# EAGLE library part POLOLU_DRV8838 (library scono)
Pololu DRV_8838 Breakout 1 Motor, 1.7 Amps.
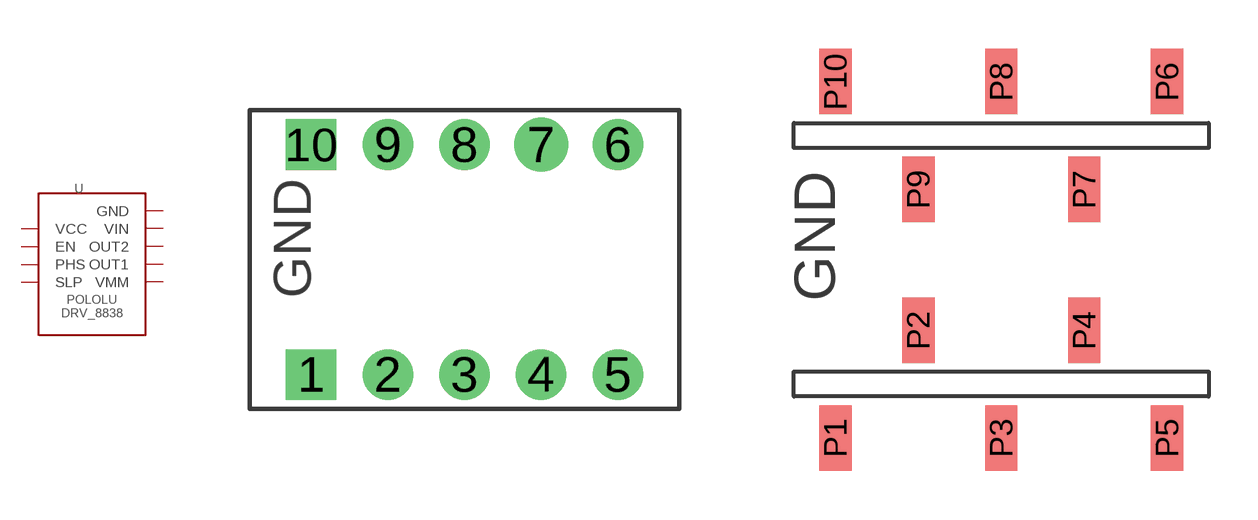
[diagram p13: symbol with the pads of DIP_10; footprints DIP_10, 10PIN_SMT_.1"]

Designator prefix -

## POLOLU_DRV8838THRU  [DIP_10]
1  GND
2  VCC
3  EN
4  PHS
5  SLP
6  VMM
7  OUT1
8  OUT2
9  VIN
10  GND

## POLOLU_DRV8838SMT  [10PIN_SMT_.1"]
P1  GND
P2  VCC
P3  EN
P4  PHS
P5  SLP
P6  VMM
P7  OUT1
P8  OUT2
P9  VIN
P10  GND

## POLOLU_DRV8838CAST  [POLOLU_DRV8838_CASTELLATED]
Pads as for DIP_10

## Footprint DIP_10 (pad centres in mm)
DIP SWITCH
drill 0.813 pad 1.676 square: 1 -5.08,-3.81; 10 -5.08,3.81
drill 0.813 pad 1.676: 2 -2.54,-3.81; 3 0,-3.81; 4 2.54,-3.81; 5 5.08,-3.81; 6 5.08,3.81; 8 0,3.81; 9 -2.54,3.81
drill 0.813 pad 1.778: 7 2.54,3.81

## Footprint 10PIN_SMT_.1" (pad centres in mm)
10 Pin SMT Female Header, on a .3" DIP spacing S5636-ND or similar
smd 0.991 x 2.007: P1 -5.08,-5.461; P2 -2.54,-2.159; P3 0,-5.461; P4 2.54,-2.159; P5 5.08,-5.461; P6 5.08,5.461; P7 2.54,2.159; P8 0,5.461; P9 -2.54,2.159; P10 -5.08,5.461

## Footprint POLOLU_DRV8838_CASTELLATED (pad centres in mm)
Castellated (link) <https://learn.sparkfun.com/tutorials/how-to-solder---castellated-mounting-holes> DRV8838
smd 1.524 x 4.572: 1 -5.08,-5.08; 2 -2.54,-5.08; 3 0,-5.08; 4 2.54,-5.08; 5 5.08,-5.08; 6 5.08,5.08; 7 2.54,5.08; 8 0,5.08; 9 -2.54,5.08; 10 -5.08,5.08